# Altium footprint library ADP1607.PcbLib: 1 footprints
Each footprint in its own frame and in the unit in brackets; x right, y up, seen from the top. Pads: shape width x height; smd on the part's side, far side on the other; paste and mask are expansions set on the pad; w line width, h text height; cw(c..) or ccw(c..) is an arc to the next point about the centre after c.
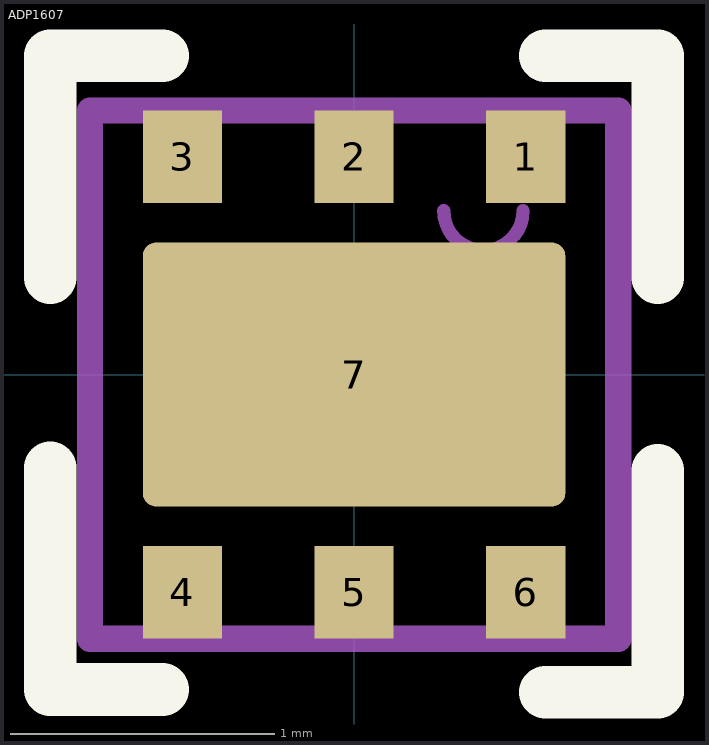
[diagram p0: the footprint, top view; thin cyan lines are the x and y axes]

## ADP1607 [mm]
pads (7):
  rect 0.3x0.35 smd: 1(0.65,0.825) 2(0,0.825) 3(-0.65,0.825) 4(-0.65,-0.825) 5(0,-0.825) 6(0.65,-0.825)
  rrect10% 1.6x1 smd: 7(0,0)
Top Overlay:
  lines w0.2: -1.15,-0.353 -1.15,-1.193 -0.725,-1.193 ; -1.15,0.367 -1.15,1.207 -0.725,1.207 ; 0.725,-1.203 1.15,-1.203 1.15,-0.363 ; 0.725,1.207 1.15,1.207 1.15,0.367
Mechanical 13:
  lines w0.05: 0.34,0.62 ccw(c0.49,0.62) 0.64,0.62
  lines w0.1: -1,-1 1,-1 1,1 -1,1 -1,-1